# EAGLE library part MPXV7002DPT1 (library MPXV7002DPT1)
NXP - MPXV7002DPT1 - PRESSURE SENSOR, 2 TO -2KPA, SOP-8 Source: Datasheet <https://www.arrow.com/en/products/mpxv7002dpt1/nxp-semiconductors>
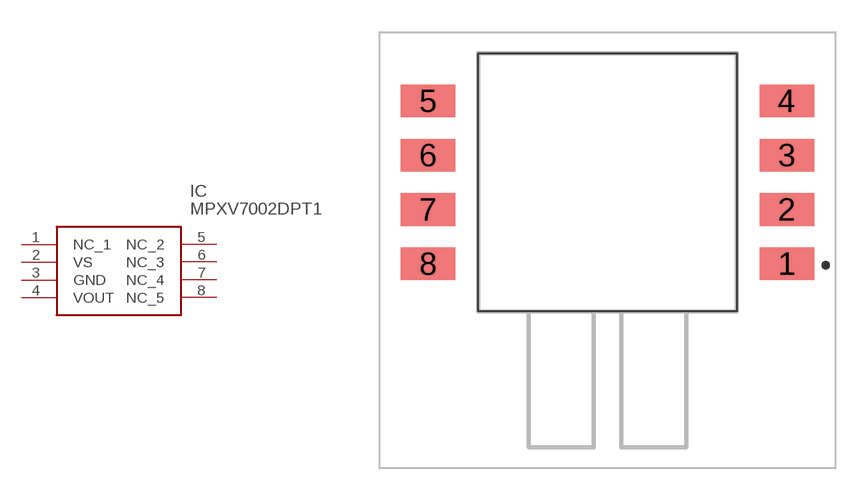
[diagram p0: symbol with the pads of MPXV7002DPT1; footprint MPXV7002DPT1]

Designator prefix IC

## MPXV7002DPT1 (Arrow_Part_Number: MPXV7002DPT1; Arrow_Price-Stock: https://www.arrow.com/en/products/mpxv7002dpt1/nxp-semiconductors; Description: NXP - MPXV7002DPT1 - PRESSURE SENSOR, 2 TO -2KPA, SOP-8; Height: 9.906mm; Manufacturer_Name: Nexperia; Manufacturer_Part_Number: MPXV7002DPT1)  [MPXV7002DPT1]
1  NC_1
2  VS
3  GND
4  VOUT
5  NC_2
6  NC_3
7  NC_4
8  NC_5

## Footprint MPXV7002DPT1 (pad centres in mm)
CASE 1351-01 ISSUE A+ffw
smd 2.54 x 1.52: 1 8.38,-0.635; 2 8.38,1.905; 3 8.38,4.445; 4 8.38,6.985; 5 -8.38,6.985; 6 -8.38,4.445; 7 -8.38,1.905; 8 -8.38,-0.635